# EAGLE library part DRIVER-ULN2003#MC (library diy-modules)
7-Channel Darlington NPN Transistor Module based on ULN2003 chip Symbol with motor connector pins Click here to find device on ebay.com <http://www.ebay.com/sch/uln2003+stepper+driver+module> Note: There are many variants. Search for the proper version.
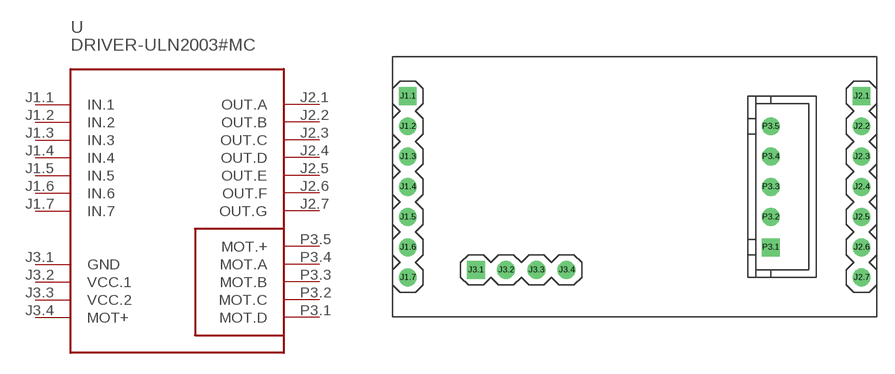
[diagram p14: symbol with the pads of DRIVER-ULN2003#MC; footprint DRIVER-ULN2003#MC]

Designator prefix -

## DRIVER-ULN2003#MC  [DRIVER-ULN2003#MC]
J1.1  IN.1
J1.2  IN.2
J1.3  IN.3
J1.4  IN.4
J1.5  IN.5
J1.6  IN.6
J1.7  IN.7
J2.1  OUT.A
J2.2  OUT.B
J2.3  OUT.C
J2.4  OUT.D
J2.5  OUT.E
J2.6  OUT.F
J2.7  OUT.G
J3.1  GND  pwr
J3.2  VCC.1  pwr
J3.3  VCC.2
J3.4  MOT+
P3.1  MOT.D
P3.2  MOT.C
P3.3  MOT.B
P3.4  MOT.A
P3.5  MOT.+

## Footprint DRIVER-ULN2003#MC (pad centres in mm)
7-Channel Darlington NPN Transistor Module based on ULN2003 chip Footprint with motor connector
drill 1 square: J1.1 -19.05,7.62; J2.1 19.05,7.62; J3.1 -13.335,-6.985; P3.1 11.43,-5.08
drill 1: J1.2 -19.05,5.08; J1.3 -19.05,2.54; J1.4 -19.05,0; J1.5 -19.05,-2.54; J1.6 -19.05,-5.08; J1.7 -19.05,-7.62; J2.2 19.05,5.08; J2.3 19.05,2.54; J2.4 19.05,0; J2.5 19.05,-2.54; J2.6 19.05,-5.08; J2.7 19.05,-7.62; J3.2 -10.795,-6.985; J3.3 -8.255,-6.985; J3.4 -5.715,-6.985; P3.2 11.43,-2.54; P3.3 11.43,0; P3.4 11.43,2.54; P3.5 11.43,5.08